# EAGLE library part MICROCHIP_PIC18LF46K22-I-MV (library Upverter Library)
MCHP-PIC18F4XK22-UQFN-40
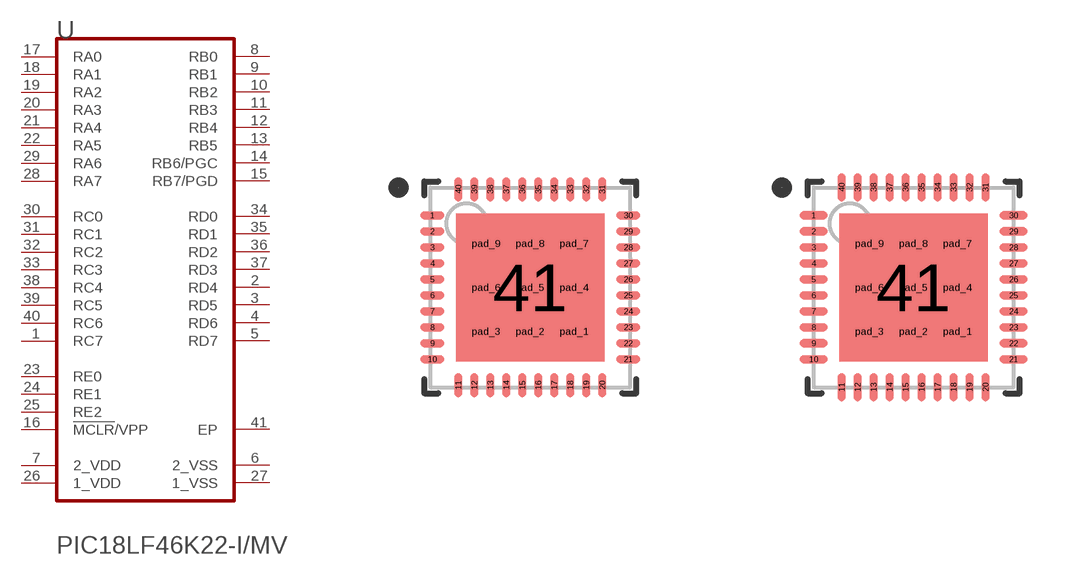
[diagram p0: symbol with the pads of MICROCHIP_PIC18LF46K22-I-MV_0; footprints MICROCHIP_PIC18LF46K22-I-MV_0, MICROCHIP_PIC18LF46K22-I-MV_1]

Designator prefix U

## MICROCHIP_PIC18LF46K22-I-MVMICROCHIP_PIC18LF46K22-I-MV_0_0 (Component_Link_2_Description: Package Specification; Component_Link_2_URL: http://www.microchip.com/stellent/groups/techpub_sg/documents/packagingspec/en012702.pdf; Component_Link_3_Description: URL Link1; Component_Link_3_URL: Product URL:http://www.microchip.com/datasheet/PIC18F46K22; Datasheet_Version: Rev. F; Digital_Communication: 2-A/E/USART, 2-MSSP(SPI/I2C); EEPROM_Data_Memory_bytes: 1024; IO_Pins: 35; Internal_Oscillator: 16 MHz, 31 kHz; MF: Microchip; MPN: PIC18LF46K22-I/MV; Max_CPU_Speed_MHz: 16; Memory_Type: Flash; Mounting_Technology: Surface Mount; Operation_Voltage_Range: 1.8V - 3.6V; Package_Description: 40-Lead Plastic Ultra Thin Quad Flat, No Lead Package, Body 5 x 5 mm, Pitch 0.4 mm; Package_Version: C04-156A, 04/2013; Packing: TUBE; Program_Memory_KBytes: 64; Program_Memory_KWords: 32; RAM: 3896; Timers: 3 - 8-bit, 4 - 16-bit; ciiva_ids: 1156885; datasheet: http://ww1.microchip.com/downloads/en/DeviceDoc/41412F.pdf; footprint_variant_name_0: Level C; footprint_variant_name_1: Level B; footprint_variant_name_2: Level A; import_ts: 1521862508; imported: yes; imported_from: vault; of_AD_Channels: 28; package: UQFN-MV40; pin_0_0_13_inside_edge: clock; prefix: U; release_date: 1370054166; vault_guid: 4AD4499F-4258-456F-8BC1-D82EC74C6FCE; vault_revision: 1F45D5E2-C531-4F36-B47A-F05F4A728A22)  [MICROCHIP_PIC18LF46K22-I-MV_0]
1  RC7
2  RD4
3  RD5
4  RD6
5  RD7
6  2_VSS  pwr
7  2_VDD  pwr
8  RB0
9  RB1
10  RB2
11  RB3
12  RB4
13  RB5
14  RB6/PGC
15  RB7/PGD
16  !MCLR!/VPP  in
17  RA0
18  RA1
19  RA2
20  RA3
21  RA4
22  RA5
23  RE0
24  RE1
25  RE2
26  1_VDD  pwr
27  1_VSS  pwr
28  RA7
29  RA6
30  RC0
31  RC1
32  RC2
33  RC3
34  RD0
35  RD1
36  RD2
37  RD3
38  RC4
39  RC5
40  RC6
41  EP  pas

## MICROCHIP_PIC18LF46K22-I-MVMICROCHIP_PIC18LF46K22-I-MV_0_1 (Component_Link_2_Description: Package Specification; Component_Link_2_URL: http://www.microchip.com/stellent/groups/techpub_sg/documents/packagingspec/en012702.pdf; Component_Link_3_Description: URL Link1; Component_Link_3_URL: Product URL:http://www.microchip.com/datasheet/PIC18F46K22; Datasheet_Version: Rev. F; Digital_Communication: 2-A/E/USART, 2-MSSP(SPI/I2C); EEPROM_Data_Memory_bytes: 1024; IO_Pins: 35; Internal_Oscillator: 16 MHz, 31 kHz; MF: Microchip; MPN: PIC18LF46K22-I/MV; Max_CPU_Speed_MHz: 16; Memory_Type: Flash; Mounting_Technology: Surface Mount; Operation_Voltage_Range: 1.8V - 3.6V; Package_Description: 40-Lead Plastic Ultra Thin Quad Flat, No Lead Package, Body 5 x 5 mm, Pitch 0.4 mm; Package_Version: C04-156A, 04/2013; Packing: TUBE; Program_Memory_KBytes: 64; Program_Memory_KWords: 32; RAM: 3896; Timers: 3 - 8-bit, 4 - 16-bit; ciiva_ids: 1156885; datasheet: http://ww1.microchip.com/downloads/en/DeviceDoc/41412F.pdf; footprint_variant_name_0: Level C; footprint_variant_name_1: Level B; footprint_variant_name_2: Level A; import_ts: 1521862508; imported: yes; imported_from: vault; of_AD_Channels: 28; package: UQFN-MV40; pin_0_0_13_inside_edge: clock; prefix: U; release_date: 1370054166; vault_guid: 4AD4499F-4258-456F-8BC1-D82EC74C6FCE; vault_revision: 1F45D5E2-C531-4F36-B47A-F05F4A728A22)  [MICROCHIP_PIC18LF46K22-I-MV_1]
Pads as for MICROCHIP_PIC18LF46K22-I-MV_0

## MICROCHIP_PIC18LF46K22-I-MVMICROCHIP_PIC18LF46K22-I-MV_0_2 (Component_Link_2_Description: Package Specification; Component_Link_2_URL: http://www.microchip.com/stellent/groups/techpub_sg/documents/packagingspec/en012702.pdf; Component_Link_3_Description: URL Link1; Component_Link_3_URL: Product URL:http://www.microchip.com/datasheet/PIC18F46K22; Datasheet_Version: Rev. F; Digital_Communication: 2-A/E/USART, 2-MSSP(SPI/I2C); EEPROM_Data_Memory_bytes: 1024; IO_Pins: 35; Internal_Oscillator: 16 MHz, 31 kHz; MF: Microchip; MPN: PIC18LF46K22-I/MV; Max_CPU_Speed_MHz: 16; Memory_Type: Flash; Mounting_Technology: Surface Mount; Operation_Voltage_Range: 1.8V - 3.6V; Package_Description: 40-Lead Plastic Ultra Thin Quad Flat, No Lead Package, Body 5 x 5 mm, Pitch 0.4 mm; Package_Version: C04-156A, 04/2013; Packing: TUBE; Program_Memory_KBytes: 64; Program_Memory_KWords: 32; RAM: 3896; Timers: 3 - 8-bit, 4 - 16-bit; ciiva_ids: 1156885; datasheet: http://ww1.microchip.com/downloads/en/DeviceDoc/41412F.pdf; footprint_variant_name_0: Level C; footprint_variant_name_1: Level B; footprint_variant_name_2: Level A; import_ts: 1521862508; imported: yes; imported_from: vault; of_AD_Channels: 28; package: UQFN-MV40; pin_0_0_13_inside_edge: clock; prefix: U; release_date: 1370054166; vault_guid: 4AD4499F-4258-456F-8BC1-D82EC74C6FCE; vault_revision: 1F45D5E2-C531-4F36-B47A-F05F4A728A22)  [MICROCHIP_PIC18LF46K22-I-MV_2]
Pads as for MICROCHIP_PIC18LF46K22-I-MV_0

## Footprint MICROCHIP_PIC18LF46K22-I-MV_0 (pad centres in mm)
MCHP-PIC18F4XK22-UQFN-40
smd 0.6 x 0.2: 1 -2.45,1.8; 2 -2.45,1.4; 3 -2.45,1; 4 -2.45,0.6; 5 -2.45,0.2; 6 -2.45,-0.2; 7 -2.45,-0.6; 8 -2.45,-1; 9 -2.45,-1.4; 10 -2.45,-1.8; 21 2.45,-1.8; 22 2.45,-1.4; 23 2.45,-1; 24 2.45,-0.6; 25 2.45,-0.2; 26 2.45,0.2; 27 2.45,0.6; 28 2.45,1; 29 2.45,1.4; 30 2.45,1.8
smd 0.2 x 0.6: 11 -1.8,-2.45; 12 -1.4,-2.45; 13 -1,-2.45; 14 -0.6,-2.45; 15 -0.2,-2.45; 16 0.2,-2.45; 17 0.6,-2.45; 18 1,-2.45; 19 1.4,-2.45; 20 1.8,-2.45; 31 1.8,2.45; 32 1.4,2.45; 33 1,2.45; 34 0.6,2.45; 35 0.2,2.45; 36 -0.2,2.45; 37 -0.6,2.45; 38 -1,2.45; 39 -1.4,2.45; 40 -1.8,2.45
smd 3.7 x 3.7: 41 0,0
drill 0.2 pad 0.5 round: pad_1 1.1,-1.1; pad_2 0,-1.1; pad_3 -1.1,-1.1; pad_4 1.1,0; pad_5 0,0; pad_6 -1.1,0; pad_7 1.1,1.1; pad_8 0,1.1; pad_9 -1.1,1.1

## Footprint MICROCHIP_PIC18LF46K22-I-MV_1 (pad centres in mm)
MCHP-PIC18F4XK22-UQFN-40
smd 0.7 x 0.2: 1 -2.5,1.8; 2 -2.5,1.4; 3 -2.5,1; 4 -2.5,0.6; 5 -2.5,0.2; 6 -2.5,-0.2; 7 -2.5,-0.6; 8 -2.5,-1; 9 -2.5,-1.4; 10 -2.5,-1.8; 21 2.5,-1.8; 22 2.5,-1.4; 23 2.5,-1; 24 2.5,-0.6; 25 2.5,-0.2; 26 2.5,0.2; 27 2.5,0.6; 28 2.5,1; 29 2.5,1.4; 30 2.5,1.8
smd 0.2 x 0.7: 11 -1.8,-2.5; 12 -1.4,-2.5; 13 -1,-2.5; 14 -0.6,-2.5; 15 -0.2,-2.5; 16 0.2,-2.5; 17 0.6,-2.5; 18 1,-2.5; 19 1.4,-2.5; 20 1.8,-2.5; 31 1.8,2.5; 32 1.4,2.5; 33 1,2.5; 34 0.6,2.5; 35 0.2,2.5; 36 -0.2,2.5; 37 -0.6,2.5; 38 -1,2.5; 39 -1.4,2.5; 40 -1.8,2.5
smd 3.7 x 3.7: 41 0,0
drill 0.2 pad 0.5 round: pad_1 1.1,-1.1; pad_2 0,-1.1; pad_3 -1.1,-1.1; pad_4 1.1,0; pad_5 0,0; pad_6 -1.1,0; pad_7 1.1,1.1; pad_8 0,1.1; pad_9 -1.1,1.1

## Footprint MICROCHIP_PIC18LF46K22-I-MV_2 (pad centres in mm)
MCHP-PIC18F4XK22-UQFN-40
smd 0.8 x 0.2: 1 -2.55,1.8; 2 -2.55,1.4; 3 -2.55,1; 4 -2.55,0.6; 5 -2.55,0.2; 6 -2.55,-0.2; 7 -2.55,-0.6; 8 -2.55,-1; 9 -2.55,-1.4; 10 -2.55,-1.8; 21 2.55,-1.8; 22 2.55,-1.4; 23 2.55,-1; 24 2.55,-0.6; 25 2.55,-0.2; 26 2.55,0.2; 27 2.55,0.6; 28 2.55,1; 29 2.55,1.4; 30 2.55,1.8
smd 0.2 x 0.8: 11 -1.8,-2.55; 12 -1.4,-2.55; 13 -1,-2.55; 14 -0.6,-2.55; 15 -0.2,-2.55; 16 0.2,-2.55; 17 0.6,-2.55; 18 1,-2.55; 19 1.4,-2.55; 20 1.8,-2.55; 31 1.8,2.55; 32 1.4,2.55; 33 1,2.55; 34 0.6,2.55; 35 0.2,2.55; 36 -0.2,2.55; 37 -0.6,2.55; 38 -1,2.55; 39 -1.4,2.55; 40 -1.8,2.55
smd 3.7 x 3.7: 41 0,0
drill 0.2 pad 0.5 round: pad_1 1.1,-1.1; pad_2 0,-1.1; pad_3 -1.1,-1.1; pad_4 1.1,0; pad_5 0,0; pad_6 -1.1,0; pad_7 1.1,1.1; pad_8 0,1.1; pad_9 -1.1,1.1